# EAGLE library part 613008143121 (library Board-to-Board (rev18a))
WR-PHD 2.54mm Angled Socket Header, 8 Pins =>Code : Con_BTB_SHD_2.54_1_THT_613008143121 <http://katalog.we-online.de/media/images/eican/Con_BTB_SHD_2.54_1_THT_6130xx143121_pf2.jpg> Details see: http://katalog.we-online.de/en/em/613_0xx_143_121 Created 2014-05-29, Karrer Zheng 2014 (C) Würth Elektronik
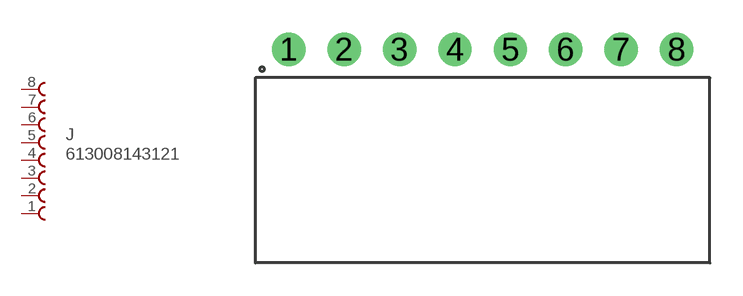
[diagram p128: symbol with the pads of 613008143121; footprint 613008143121]

Designator prefix J

## 613008143121  [613008143121]
1  8  pas
2  7  pas
3  6  pas
4  5  pas
5  4  pas
6  3  pas
7  2  pas
8  1  pas

## Footprint 613008143121 (pad centres in mm)
WR-PHD 2.54mm Angled Socket Header, 8 Pins
drill 1.02: 1 -8.89,0; 2 -6.35,0; 3 -3.81,0; 4 -1.27,0; 5 1.27,0; 6 3.81,0; 7 6.35,0; 8 8.89,0